# Altium schematic symbol library LED_0805_GREEN.SchLib: 1 symbol
Pins are listed as number, name and electrical type; pins without a type are passive.

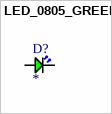
[diagram p0: symbol LED_0805_GREEN]

## LED_0805_GREEN
designator D?
20mA 215mcd Colorless Transparent Lens 565nm~575nm Positive Stick Green-yellow 120° 50mW 2.3V 0805 LED Indication - Discrete ROHS; Manufacturer: XINGLIGHT; Manufacturer Part: XL-2012SYGC; Forward Current: 20mA; Forward Voltage: 2.3V; ComponentLink1Description: Datasheet; ComponentLink1URL: https://www.lcsc.com/datasheet/lcsc_datasheet_2504101957_XINGLIGHT-XL-2012SYGC_C965816.pdf
footprint LED_0805_GREEN
pins: 1, 2